# Altium integrated library Analog Devices Data Converters Analog-to-Digital Converters.IntLib: 2404 symbols (part 343 of 346)
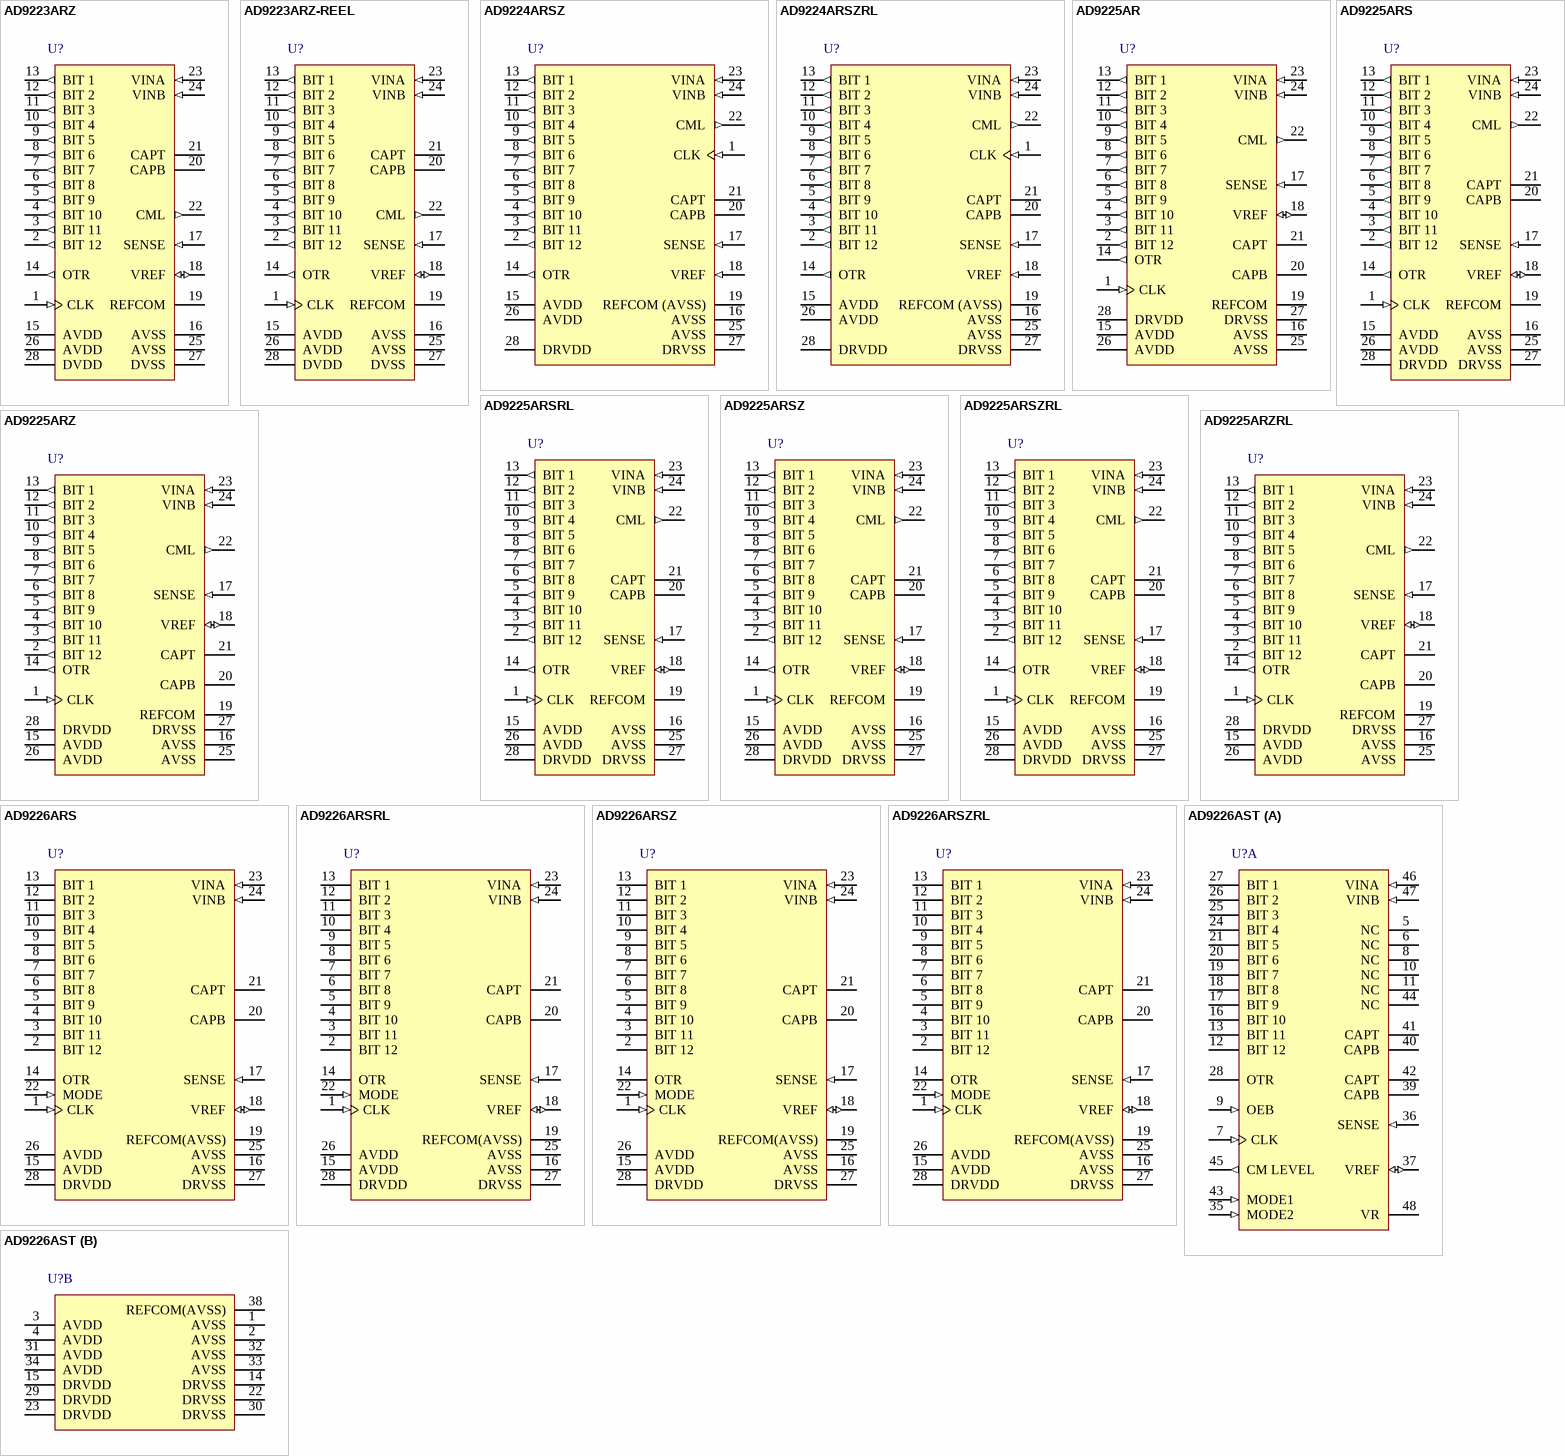
[diagram p338: symbols AD9223ARZ to AD9226AST]

## AD9225ARSZRL
designator U?
Single 12-Bit Monolithic Analog-to-Digital Converter with Parallel Interface, 25MSPS, -40 to +85 degC, RS-28, Pb-Free, Reel; Generic Part Number: AD9225; Manufacturer: Analog Devices; PartNumber: AD9225ARSZRL; Resolution (Bits): 12; Channels: 1; Throughput Rate (SPS): 25M; Interface: Par; DatasheetVersion: Rev.C; PackageVersion: 060106-A; PackageReference: RS-28; PackageDescription: 28-Lead Shrink Small Outline Package [SSOP]; Supplier 1: Digi-Key; Supplier Part Number 1: AD9225ARSZRL-ND; Supplier 2: Newark; Supplier Part Number 2: 59K7171; Supplier 3: Mouser; Supplier Part Number 3: 584-AD9225ARSZR; RoHS: Y; Packing: Reel; Mounting Technology: Surface Mount; Code_JEDEC: MO-150-AH; ComponentLink1Description: Manufacturer URL; ComponentLink1URL: http://www.analog.com/en/index.html; ComponentLink2Description: Datasheet; ComponentLink2URL: http://www.analog.com/static/imported-files/data_sheets/AD9225.pdf; ComponentLink3Description: Package Specification; ComponentLink3URL: http://www.analog.com/static/imported-files/packages/32122249223724RS_28.pdf; ComponentLink4Description: Product URL; ComponentLink4URL: http://www.analog.com/en/analog-to-digital-converters/ad-converters/ad9225/products/product.html
footprint RS-28_N (SOP, 28-Leads, Body 10.2x5.3mm, Pitch 0.65mm, IPC Medium Density)
footprint RS-28_L (SOP, 28-Leads, Body 10.2x5.3mm, Pitch 0.65mm, IPC High Density)
footprint RS-28_M (SOP, 28-Leads, Body 10.2x5.3mm, Pitch 0.65mm, IPC Low Density)
pins: 1 CLK (in) "Clock Input Pin", 2 BIT 12 (out) "Least Significant Data Bit (LSB)", 3 BIT 11 (out) "Data Output Bit", 4 BIT 10 (out) "Data Output Bit", 5 BIT 9 (out) "Data Output Bit", 6 BIT 8 (out) "Data Output Bit", 7 BIT 7 (out) "Data Output Bit", 8 BIT 6 (out) "Data Output Bit", 9 BIT 5 (out) "Data Output Bit", 10 BIT 4 (out) "Data Output Bit", 11 BIT 3 (out) "Data Output Bit", 12 BIT 2 (out) "Data Output Bit", 13 BIT 1 (out) "Most Significant Data Bit (MSB)", 14 OTR (out) "Out of Range", 15 AVDD (power) "5 V Analog Supply", 16 AVSS (power) "Analog Ground", 17 SENSE (in) "Reference Select", 18 VREF (io) "Input Span Select (Reference I/O)", 19 REFCOM (power) "Reference Common (AVSS)", 20 CAPB "Noise Reduction Pin", 21 CAPT "Noise Reduction Pin", 22 CML (out) "Common-Mode Level (Midsupply)", 23 VINA (in) "Analog Input Pin (+)", 24 VINB (in) "Analog Input Pin (-)", 25 AVSS (power) "Analog Ground", 26 AVDD (power) "5 V Analog Supply", 27 DRVSS (power) "Digital Output Driver Ground", 28 DRVDD (power) "3 V to 5 V Digital Output Driver Supply"

## AD9225ARZ
designator U?
Single 12-Bit Monolithic Analog-to-Digital Converter with Parallel Interface, 25MSPS, -40 to +85 degC, RW-28, Pb-Free, Tube; Generic Part Number: AD9225; Manufacturer: Analog Devices; PartNumber: AD9225ARZ; Resolution (Bits): 12; Channels: 1; Throughput Rate (SPS): 25M; Interface: Par; DatasheetVersion: Rev.C; PackageVersion: 060706-A; PackageReference: RW-28; PackageDescription: 28-Lead Standard Small Outline Package [SOIC_W]; Supplier 1: Digi-Key; Supplier Part Number 1: AD9225ARZ-ND; Supplier 2: Newark; Supplier Part Number 2: 59K7172; Supplier 3: Mouser; Supplier Part Number 3: 584-AD9225ARZ; RoHS: Y; Packing: Tube; Mounting Technology: Surface Mount; Code_JEDEC: MS-013-AE; ComponentLink1Description: Manufacturer URL; ComponentLink1URL: http://www.analog.com/en/index.html; ComponentLink2Description: Datasheet; ComponentLink2URL: http://www.analog.com/static/imported-files/data_sheets/AD9225.pdf; ComponentLink3Description: Package Specification; ComponentLink3URL: http://www.analog.com/static/imported-files/packages/35833120341221RW_28.pdf; ComponentLink4Description: Product URL; ComponentLink4URL: http://www.analog.com/en/analog-to-digital-converters/ad-converters/ad9225/products/product.html
footprint RW-28_N (SOIC, 28-Leads, Body 17.9x7.5mm, Pitch 1.27mm, IPC Medium Density)
footprint RW-28_L (SOIC, 28-Leads, Body 17.9x7.5mm, Pitch 1.27mm, IPC High Density)
footprint RW-28_M (SOIC, 28-Leads, Body 17.9x7.5mm, Pitch 1.27mm, IPC Low Density)
pins: 1 CLK (in) "Clock Input Pin", 2 BIT 12 (out) "Least Significant Data Bit (LSB)", 3 BIT 11 (out) "Data Output Bit", 4 BIT 10 (out) "Data Output Bit", 5 BIT 9 (out) "Data Output Bit", 6 BIT 8 (out) "Data Output Bit", 7 BIT 7 (out) "Data Output Bit", 8 BIT 6 (out) "Data Output Bit", 9 BIT 5 (out) "Data Output Bit", 10 BIT 4 (out) "Data Output Bit", 11 BIT 3 (out) "Data Output Bit", 12 BIT 2 (out) "Data Output Bit", 13 BIT 1 (out) "Most Significant Data Bit (MSB)", 14 OTR (out) "Out of Range", 15 AVDD (power) "5 V Analog Supply", 16 AVSS (power) "Analog Ground", 17 SENSE (in) "Reference Select", 18 VREF (io) "Input Span Select (Reference I/O)", 19 REFCOM (power) "Reference Common (AVSS)", 20 CAPB "Noise Reduction Pin", 21 CAPT "Noise Reduction Pin", 22 CML (out) "Common-Mode Level (Midsupply)", 23 VINA (in) "Analog Input Pin (+)", 24 VINB (in) "Analog Input Pin (-)", 25 AVSS (power) "Analog Ground", 26 AVDD (power) "5 V Analog Supply", 27 DRVSS (power) "Digital Output Driver Ground", 28 DRVDD (power) "3 V to 5 V Digital Output Driver Supply"

## AD9225ARZRL
designator U?
Single 12-Bit Monolithic Analog-to-Digital Converter with Parallel Interface, 25MSPS, -40 to +85 degC, RW-28, Pb-Free, Reel; Generic Part Number: AD9225; Manufacturer: Analog Devices; PartNumber: AD9225ARZRL; Resolution (Bits): 12; Channels: 1; Throughput Rate (SPS): 25M; Interface: Par; DatasheetVersion: Rev.C; PackageVersion: 060706-A; PackageReference: RW-28; PackageDescription: 28-Lead Standard Small Outline Package [SOIC_W]; Supplier 1: Digi-Key; Supplier Part Number 1: AD9225ARZRL-ND; Supplier 2: Mouser; Supplier Part Number 2: 584-AD9225ARZR; RoHS: Y; Packing: Reel; Mounting Technology: Surface Mount; Code_JEDEC: MS-013-AE; ComponentLink1Description: Manufacturer URL; ComponentLink1URL: http://www.analog.com/en/index.html; ComponentLink2Description: Datasheet; ComponentLink2URL: http://www.analog.com/static/imported-files/data_sheets/AD9225.pdf; ComponentLink3Description: Package Specification; ComponentLink3URL: http://www.analog.com/static/imported-files/packages/35833120341221RW_28.pdf; ComponentLink4Description: Product URL; ComponentLink4URL: http://www.analog.com/en/analog-to-digital-converters/ad-converters/ad9225/products/product.html
footprint RW-28_N (SOIC, 28-Leads, Body 17.9x7.5mm, Pitch 1.27mm, IPC Medium Density)
footprint RW-28_L (SOIC, 28-Leads, Body 17.9x7.5mm, Pitch 1.27mm, IPC High Density)
footprint RW-28_M (SOIC, 28-Leads, Body 17.9x7.5mm, Pitch 1.27mm, IPC Low Density)
pins: 1 CLK (in) "Clock Input Pin", 2 BIT 12 (out) "Least Significant Data Bit (LSB)", 3 BIT 11 (out) "Data Output Bit", 4 BIT 10 (out) "Data Output Bit", 5 BIT 9 (out) "Data Output Bit", 6 BIT 8 (out) "Data Output Bit", 7 BIT 7 (out) "Data Output Bit", 8 BIT 6 (out) "Data Output Bit", 9 BIT 5 (out) "Data Output Bit", 10 BIT 4 (out) "Data Output Bit", 11 BIT 3 (out) "Data Output Bit", 12 BIT 2 (out) "Data Output Bit", 13 BIT 1 (out) "Most Significant Data Bit (MSB)", 14 OTR (out) "Out of Range", 15 AVDD (power) "5 V Analog Supply", 16 AVSS (power) "Analog Ground", 17 SENSE (in) "Reference Select", 18 VREF (io) "Input Span Select (Reference I/O)", 19 REFCOM (power) "Reference Common (AVSS)", 20 CAPB "Noise Reduction Pin", 21 CAPT "Noise Reduction Pin", 22 CML (out) "Common-Mode Level (Midsupply)", 23 VINA (in) "Analog Input Pin (+)", 24 VINB (in) "Analog Input Pin (-)", 25 AVSS (power) "Analog Ground", 26 AVDD (power) "5 V Analog Supply", 27 DRVSS (power) "Digital Output Driver Ground", 28 DRVDD (power) "3 V to 5 V Digital Output Driver Supply"

## AD9226ARS
designator U?
Single 12-Bit Analog-to-Digital Converter with Parallel Interface, 65MSPS, -40 to +85 degC, RS-28, Tube; Generic Part Number: AD9226; Manufacturer: Analog Devices; PartNumber: AD9226ARS; Resolution (Bits): 12; Channels: 1; Throughput Rate (SPS): 65M; Interface: Par; DatasheetVersion: Rev.B; PackageVersion: 060106-A; PackageReference: RS-28; PackageDescription: 28-Lead Shrink Small Outline Package [SSOP]; Supplier 1: Digi-Key; Supplier Part Number 1: AD9226ARS-ND; RoHS: N; Packing: Tube; Mounting Technology: Surface Mount; Code_JEDEC: MO-150-AH; ComponentLink1Description: Manufacturer URL; ComponentLink1URL: http://www.analog.com/en/index.html; ComponentLink2Description: Datasheet; ComponentLink2URL: http://www.analog.com/static/imported-files/data_sheets/AD9226.pdf; ComponentLink3Description: Package Specification; ComponentLink3URL: http://www.analog.com/static/imported-files/packages/32122249223724RS_28.pdf; ComponentLink4Description: Product URL; ComponentLink4URL: http://www.analog.com/en/analog-to-digital-converters/ad-converters/ad9226/products/product.html
footprint RS-28_N (SOP, 28-Leads, Body 10.2x5.3mm, Pitch 0.65mm, IPC Medium Density)
footprint RS-28_L (SOP, 28-Leads, Body 10.2x5.3mm, Pitch 0.65mm, IPC High Density)
footprint RS-28_M (SOP, 28-Leads, Body 10.2x5.3mm, Pitch 0.65mm, IPC Low Density)
pins: 1 CLK (in) "Clock Input Pin", 2 BIT 12 (hiz) "Least Significant Data Bit (LSB)", 3 BIT 11 (hiz) "Data Output Bit", 4 BIT 10 (hiz) "Data Output Bit", 5 BIT 9 (hiz) "Data Output Bit", 6 BIT 8 (hiz) "Data Output Bit", 7 BIT 7 (hiz) "Data Output Bit", 8 BIT 6 (hiz) "Data Output Bit", 9 BIT 5 (hiz) "Data Output Bit", 10 BIT 4 (hiz) "Data Output Bit", 11 BIT 3 (hiz) "Data Output Bit", 12 BIT 2 (hiz) "Data Output Bit", 13 BIT 1 (hiz) "Most Significant Data Bit (MSB)", 14 OTR (hiz) "Out of Range", 15 AVDD (power) "5 V Analog Supply", 16 AVSS (power) "Analog Ground", 17 SENSE (in) "Reference Select", 18 VREF (io) "Input Span Select (Reference I/O)", 19 REFCOM(AVSS) (power) "Reference Common", 20 CAPB "Noise Reduction Pin", 21 CAPT "Noise Reduction Pin", 22 MODE (in) "Data Format Select /Clock Stabilizer", 23 VINA (in) "Analog Input Pin (+)", 24 VINB (in) "Analog Input Pin (-)", 25 AVSS (power) "Analog Ground", 26 AVDD (power) "5 V Analog Supply", 27 DRVSS (power) "Digital Output Driver Ground", 28 DRVDD (power) "3 V to 5 V Digital Output Driver Supply"

## AD9226ARSRL
designator U?
Single 12-Bit Analog-to-Digital Converter with Parallel Interface, 65MSPS, -40 to +85 degC, RS-28, Reel; Generic Part Number: AD9226; Manufacturer: Analog Devices; PartNumber: AD9226ARSRL; Resolution (Bits): 12; Channels: 1; Throughput Rate (SPS): 65M; Interface: Par; DatasheetVersion: Rev.B; PackageVersion: 060106-A; PackageReference: RS-28; PackageDescription: 28-Lead Shrink Small Outline Package [SSOP]; Supplier 1: Digi-Key; Supplier Part Number 1: AD9226ARSRL-ND; RoHS: N; Packing: Reel; Mounting Technology: Surface Mount; Code_JEDEC: MO-150-AH; ComponentLink1Description: Manufacturer URL; ComponentLink1URL: http://www.analog.com/en/index.html; ComponentLink2Description: Datasheet; ComponentLink2URL: http://www.analog.com/static/imported-files/data_sheets/AD9226.pdf; ComponentLink3Description: Package Specification; ComponentLink3URL: http://www.analog.com/static/imported-files/packages/32122249223724RS_28.pdf; ComponentLink4Description: Product URL; ComponentLink4URL: http://www.analog.com/en/analog-to-digital-converters/ad-converters/ad9226/products/product.html
footprint RS-28_N (SOP, 28-Leads, Body 10.2x5.3mm, Pitch 0.65mm, IPC Medium Density)
footprint RS-28_L (SOP, 28-Leads, Body 10.2x5.3mm, Pitch 0.65mm, IPC High Density)
footprint RS-28_M (SOP, 28-Leads, Body 10.2x5.3mm, Pitch 0.65mm, IPC Low Density)
pins: 1 CLK (in) "Clock Input Pin", 2 BIT 12 (hiz) "Least Significant Data Bit (LSB)", 3 BIT 11 (hiz) "Data Output Bit", 4 BIT 10 (hiz) "Data Output Bit", 5 BIT 9 (hiz) "Data Output Bit", 6 BIT 8 (hiz) "Data Output Bit", 7 BIT 7 (hiz) "Data Output Bit", 8 BIT 6 (hiz) "Data Output Bit", 9 BIT 5 (hiz) "Data Output Bit", 10 BIT 4 (hiz) "Data Output Bit", 11 BIT 3 (hiz) "Data Output Bit", 12 BIT 2 (hiz) "Data Output Bit", 13 BIT 1 (hiz) "Most Significant Data Bit (MSB)", 14 OTR (hiz) "Out of Range", 15 AVDD (power) "5 V Analog Supply", 16 AVSS (power) "Analog Ground", 17 SENSE (in) "Reference Select", 18 VREF (io) "Input Span Select (Reference I/O)", 19 REFCOM(AVSS) (power) "Reference Common", 20 CAPB "Noise Reduction Pin", 21 CAPT "Noise Reduction Pin", 22 MODE (in) "Data Format Select /Clock Stabilizer", 23 VINA (in) "Analog Input Pin (+)", 24 VINB (in) "Analog Input Pin (-)", 25 AVSS (power) "Analog Ground", 26 AVDD (power) "5 V Analog Supply", 27 DRVSS (power) "Digital Output Driver Ground", 28 DRVDD (power) "3 V to 5 V Digital Output Driver Supply"

## AD9226ARSZ
designator U?
Single 12-Bit Analog-to-Digital Converter with Parallel Interface, 65MSPS, -40 to +85 degC, RS-28, Pb-Free, Tube; Generic Part Number: AD9226; Manufacturer: Analog Devices; PartNumber: AD9226ARSZ; Resolution (Bits): 12; Channels: 1; Throughput Rate (SPS): 65M; Interface: Par; DatasheetVersion: Rev.B; PackageVersion: 060106-A; PackageReference: RS-28; PackageDescription: 28-Lead Shrink Small Outline Package [SSOP]; Supplier 1: Digi-Key; Supplier Part Number 1: AD9226ARSZ-ND; Supplier 2: Newark; Supplier Part Number 2: 59K7174; Supplier 3: Mouser; Supplier Part Number 3: 584-AD9226ARSZ; RoHS: Y; Packing: Tube; Mounting Technology: Surface Mount; Code_JEDEC: MO-150-AH; ComponentLink1Description: Manufacturer URL; ComponentLink1URL: http://www.analog.com/en/index.html; ComponentLink2Description: Datasheet; ComponentLink2URL: http://www.analog.com/static/imported-files/data_sheets/AD9226.pdf; ComponentLink3Description: Package Specification; ComponentLink3URL: http://www.analog.com/static/imported-files/packages/32122249223724RS_28.pdf; ComponentLink4Description: Product URL; ComponentLink4URL: http://www.analog.com/en/analog-to-digital-converters/ad-converters/ad9226/products/product.html
footprint RS-28_N (SOP, 28-Leads, Body 10.2x5.3mm, Pitch 0.65mm, IPC Medium Density)
footprint RS-28_L (SOP, 28-Leads, Body 10.2x5.3mm, Pitch 0.65mm, IPC High Density)
footprint RS-28_M (SOP, 28-Leads, Body 10.2x5.3mm, Pitch 0.65mm, IPC Low Density)
pins: 1 CLK (in) "Clock Input Pin", 2 BIT 12 (hiz) "Least Significant Data Bit (LSB)", 3 BIT 11 (hiz) "Data Output Bit", 4 BIT 10 (hiz) "Data Output Bit", 5 BIT 9 (hiz) "Data Output Bit", 6 BIT 8 (hiz) "Data Output Bit", 7 BIT 7 (hiz) "Data Output Bit", 8 BIT 6 (hiz) "Data Output Bit", 9 BIT 5 (hiz) "Data Output Bit", 10 BIT 4 (hiz) "Data Output Bit", 11 BIT 3 (hiz) "Data Output Bit", 12 BIT 2 (hiz) "Data Output Bit", 13 BIT 1 (hiz) "Most Significant Data Bit (MSB)", 14 OTR (hiz) "Out of Range", 15 AVDD (power) "5 V Analog Supply", 16 AVSS (power) "Analog Ground", 17 SENSE (in) "Reference Select", 18 VREF (io) "Input Span Select (Reference I/O)", 19 REFCOM(AVSS) (power) "Reference Common", 20 CAPB "Noise Reduction Pin", 21 CAPT "Noise Reduction Pin", 22 MODE (in) "Data Format Select /Clock Stabilizer", 23 VINA (in) "Analog Input Pin (+)", 24 VINB (in) "Analog Input Pin (-)", 25 AVSS (power) "Analog Ground", 26 AVDD (power) "5 V Analog Supply", 27 DRVSS (power) "Digital Output Driver Ground", 28 DRVDD (power) "3 V to 5 V Digital Output Driver Supply"

## AD9226ARSZRL
designator U?
Single 12-Bit Analog-to-Digital Converter with Parallel Interface, 65MSPS, -40 to +85 degC, RS-28, Pb-Free, Reel; Generic Part Number: AD9226; Manufacturer: Analog Devices; PartNumber: AD9226ARSZRL; Resolution (Bits): 12; Channels: 1; Throughput Rate (SPS): 65M; Interface: Par; DatasheetVersion: Rev.B; PackageVersion: 060106-A; PackageReference: RS-28; PackageDescription: 28-Lead Shrink Small Outline Package [SSOP]; Supplier 1: Digi-Key; Supplier Part Number 1: AD9226ARSZRL-ND; Supplier 2: Mouser; Supplier Part Number 2: 584-AD9226ARSZR; RoHS: Y; Packing: Reel; Mounting Technology: Surface Mount; Code_JEDEC: MO-150-AH; ComponentLink1Description: Manufacturer URL; ComponentLink1URL: http://www.analog.com/en/index.html; ComponentLink2Description: Datasheet; ComponentLink2URL: http://www.analog.com/static/imported-files/data_sheets/AD9226.pdf; ComponentLink3Description: Package Specification; ComponentLink3URL: http://www.analog.com/static/imported-files/packages/32122249223724RS_28.pdf; ComponentLink4Description: Product URL; ComponentLink4URL: http://www.analog.com/en/analog-to-digital-converters/ad-converters/ad9226/products/product.html
footprint RS-28_N (SOP, 28-Leads, Body 10.2x5.3mm, Pitch 0.65mm, IPC Medium Density)
footprint RS-28_L (SOP, 28-Leads, Body 10.2x5.3mm, Pitch 0.65mm, IPC High Density)
footprint RS-28_M (SOP, 28-Leads, Body 10.2x5.3mm, Pitch 0.65mm, IPC Low Density)
pins: 1 CLK (in) "Clock Input Pin", 2 BIT 12 (hiz) "Least Significant Data Bit (LSB)", 3 BIT 11 (hiz) "Data Output Bit", 4 BIT 10 (hiz) "Data Output Bit", 5 BIT 9 (hiz) "Data Output Bit", 6 BIT 8 (hiz) "Data Output Bit", 7 BIT 7 (hiz) "Data Output Bit", 8 BIT 6 (hiz) "Data Output Bit", 9 BIT 5 (hiz) "Data Output Bit", 10 BIT 4 (hiz) "Data Output Bit", 11 BIT 3 (hiz) "Data Output Bit", 12 BIT 2 (hiz) "Data Output Bit", 13 BIT 1 (hiz) "Most Significant Data Bit (MSB)", 14 OTR (hiz) "Out of Range", 15 AVDD (power) "5 V Analog Supply", 16 AVSS (power) "Analog Ground", 17 SENSE (in) "Reference Select", 18 VREF (io) "Input Span Select (Reference I/O)", 19 REFCOM(AVSS) (power) "Reference Common", 20 CAPB "Noise Reduction Pin", 21 CAPT "Noise Reduction Pin", 22 MODE (in) "Data Format Select /Clock Stabilizer", 23 VINA (in) "Analog Input Pin (+)", 24 VINB (in) "Analog Input Pin (-)", 25 AVSS (power) "Analog Ground", 26 AVDD (power) "5 V Analog Supply", 27 DRVSS (power) "Digital Output Driver Ground", 28 DRVDD (power) "3 V to 5 V Digital Output Driver Supply"

## AD9226AST
designator U?
Single 12-Bit Analog-to-Digital Converter with Parallel Interface, 65MSPS, -40 to +85 degC, ST-48, Tray; Generic Part Number: AD9226; Manufacturer: Analog Devices; PartNumber: AD9226AST; Resolution (Bits): 12; Channels: 1; Throughput Rate (SPS): 65M; Interface: Par; DatasheetVersion: Rev.B; PackageVersion: revA; PackageReference: ST-48; PackageDescription: 48-Pin Thin Quad Flat Pack 0.5 mm Pitch; Supplier 1: Digi-Key; Supplier Part Number 1: AD9226AST-ND; RoHS: N; Packing: Tray; Mounting Technology: Surface Mount; ComponentLink1Description: Manufacturer URL; ComponentLink1URL: http://www.analog.com/en/index.html; ComponentLink2Description: Datasheet; ComponentLink2URL: http://www.analog.com/static/imported-files/data_sheets/AD9226.pdf; ComponentLink3Description: Package Specification; ComponentLink3URL: http://www.analog.com/static/imported-files/packages/PKG_PDF/LQFP%28ST%29/ST_48.pdf; ComponentLink4Description: Product URL; ComponentLink4URL: http://www.analog.com/en/analog-to-digital-converters/ad-converters/ad9226/products/product.html
footprint ST-48_N (Thin QFP, 48-Leads, Body 7x7mm, Pitch 0.5mm, IPC Medium Density)
footprint ST-48_L (Thin QFP, 48-Leads, Body 7x7mm, Pitch 0.5mm, IPC High Density)
footprint ST-48_M (Thin QFP, 48-Leads, Body 7x7mm, Pitch 0.5mm, IPC Low Density)
part A pins: 5 NC "No Connect", 6 NC "No Connect", 7 CLK (in) "Clock Input Pin", 8 NC "No Connect", 9 OEB (in) "O\u\t\p\u\t\_\E\n\a\b\l\e\ (Active Low)", 10 NC "No Connect", 11 NC "No Connect", 12 BIT 12 (hiz) "Least Significant Data Bit (LSB)", 13 BIT 11 (hiz) "Data Output Bit", 16 BIT 10 (hiz) "Data Output Bit", 17 BIT 9 (hiz) "Data Output Bit", 18 BIT 8 (hiz) "Data Output Bit", 19 BIT 7 (hiz) "Data Output Bit", 20 BIT 6 (hiz) "Data Output Bit", 21 BIT 5 (hiz) "Data Output Bit", 24 BIT 4 (hiz) "Data Output Bit", 25 BIT 3 (hiz) "Data Output Bit", 26 BIT 2 (hiz) "Data Output Bit", 27 BIT 1 (hiz) "Most Significant Data Bit (MSB)", 28 OTR (hiz) "Out of Range", 35 MODE2 (in) "Data Format Select", 36 SENSE (in) "Reference Select", 37 VREF (io) "Reference In/Out", 39 CAPB "Noise Reduction Pin", 40 CAPB "Noise Reduction Pin", 41 CAPT "Noise Reduction Pin", 42 CAPT "Noise Reduction Pin", 43 MODE1 (in) "Clock Stabilizer", 44 NC "No Connect", 45 CM LEVEL (out) "Midsupply Reference", 46 VINA (in) "Analog Input Pin (+)", 47 VINB (in) "Analog Input Pin (-)", 48 VR "Noise Reduction Pin"
part B pins: 1 AVSS (power) "Analog Ground", 2 AVSS (power) "Analog Ground", 3 AVDD (power) "5 V Analog Supply", 4 AVDD (power) "5 V Analog Supply", 14 DRVSS (power) "Digital Output Driver Ground", 15 DRVDD (power) "3 V to 5 V Digital Output Driver Supply", 22 DRVSS (power) "Digital Output Driver Ground", 23 DRVDD (power) "3 V to 5 V Digital Output Driver Supply", 29 DRVDD (power) "3 V to 5 V Digital Output Driver Supply", 30 DRVSS (power) "Digital Output Driver Ground", 31 AVDD (power) "5 V Analog Supply", 32 AVSS (power) "Analog Ground", 33 AVSS (power) "Analog Ground", 34 AVDD (power) "5 V Analog Supply", 38 REFCOM(AVSS) (power) "Reference Common"

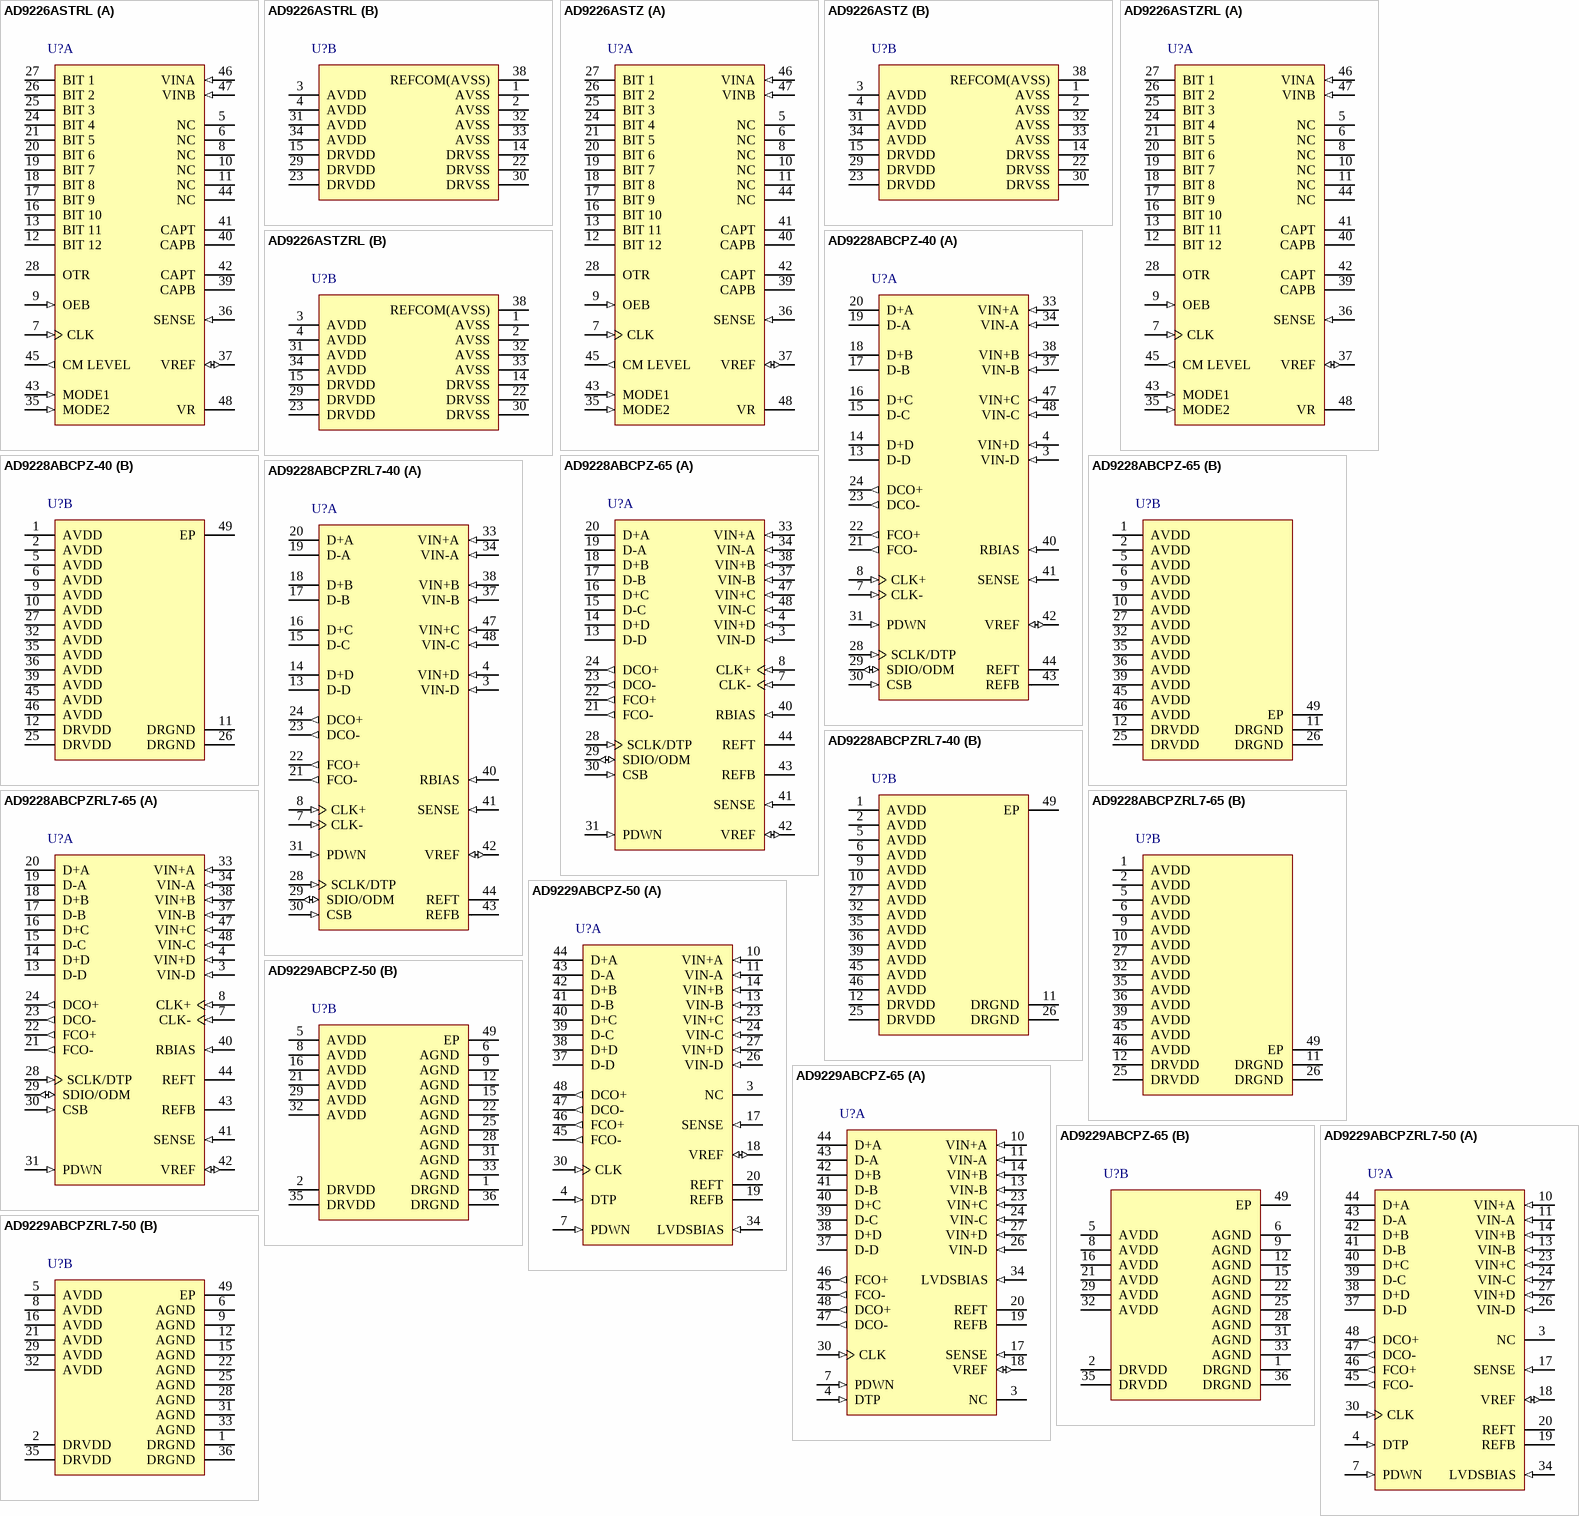
[diagram p106: symbols AD9226ASTRL to AD9229ABCPZRL7-50]

## AD9226ASTRL
designator U?
Single 12-Bit Analog-to-Digital Converter with Parallel Interface, 65MSPS, -40 to +85 degC, ST-48, Reel; Generic Part Number: AD9226; Manufacturer: Analog Devices; PartNumber: AD9226ASTRL; Resolution (Bits): 12; Channels: 1; Throughput Rate (SPS): 65M; Interface: Par; DatasheetVersion: Rev.B; PackageVersion: revA; PackageReference: ST-48; PackageDescription: 48-Pin Thin Quad Flat Pack 0.5 mm Pitch; Supplier 1: Digi-Key; Supplier Part Number 1: AD9226ASTRL-ND; RoHS: N; Packing: Reel; Mounting Technology: Surface Mount; ComponentLink1Description: Manufacturer URL; ComponentLink1URL: http://www.analog.com/en/index.html; ComponentLink2Description: Datasheet; ComponentLink2URL: http://www.analog.com/static/imported-files/data_sheets/AD9226.pdf; ComponentLink3Description: Package Specification; ComponentLink3URL: http://www.analog.com/static/imported-files/packages/PKG_PDF/LQFP%28ST%29/ST_48.pdf; ComponentLink4Description: Product URL; ComponentLink4URL: http://www.analog.com/en/analog-to-digital-converters/ad-converters/ad9226/products/product.html
footprint ST-48_N (Thin QFP, 48-Leads, Body 7x7mm, Pitch 0.5mm, IPC Medium Density)
footprint ST-48_L (Thin QFP, 48-Leads, Body 7x7mm, Pitch 0.5mm, IPC High Density)
footprint ST-48_M (Thin QFP, 48-Leads, Body 7x7mm, Pitch 0.5mm, IPC Low Density)
part A pins: 5 NC "No Connect", 6 NC "No Connect", 7 CLK (in) "Clock Input Pin", 8 NC "No Connect", 9 OEB (in) "O\u\t\p\u\t\_\E\n\a\b\l\e\ (Active Low)", 10 NC "No Connect", 11 NC "No Connect", 12 BIT 12 (hiz) "Least Significant Data Bit (LSB)", 13 BIT 11 (hiz) "Data Output Bit", 16 BIT 10 (hiz) "Data Output Bit", 17 BIT 9 (hiz) "Data Output Bit", 18 BIT 8 (hiz) "Data Output Bit", 19 BIT 7 (hiz) "Data Output Bit", 20 BIT 6 (hiz) "Data Output Bit", 21 BIT 5 (hiz) "Data Output Bit", 24 BIT 4 (hiz) "Data Output Bit", 25 BIT 3 (hiz) "Data Output Bit", 26 BIT 2 (hiz) "Data Output Bit", 27 BIT 1 (hiz) "Most Significant Data Bit (MSB)", 28 OTR (hiz) "Out of Range", 35 MODE2 (in) "Data Format Select", 36 SENSE (in) "Reference Select", 37 VREF (io) "Reference In/Out", 39 CAPB "Noise Reduction Pin", 40 CAPB "Noise Reduction Pin", 41 CAPT "Noise Reduction Pin", 42 CAPT "Noise Reduction Pin", 43 MODE1 (in) "Clock Stabilizer", 44 NC "No Connect", 45 CM LEVEL (out) "Midsupply Reference", 46 VINA (in) "Analog Input Pin (+)", 47 VINB (in) "Analog Input Pin (-)", 48 VR "Noise Reduction Pin"
part B pins: 1 AVSS (power) "Analog Ground", 2 AVSS (power) "Analog Ground", 3 AVDD (power) "5 V Analog Supply", 4 AVDD (power) "5 V Analog Supply", 14 DRVSS (power) "Digital Output Driver Ground", 15 DRVDD (power) "3 V to 5 V Digital Output Driver Supply", 22 DRVSS (power) "Digital Output Driver Ground", 23 DRVDD (power) "3 V to 5 V Digital Output Driver Supply", 29 DRVDD (power) "3 V to 5 V Digital Output Driver Supply", 30 DRVSS (power) "Digital Output Driver Ground", 31 AVDD (power) "5 V Analog Supply", 32 AVSS (power) "Analog Ground", 33 AVSS (power) "Analog Ground", 34 AVDD (power) "5 V Analog Supply", 38 REFCOM(AVSS) (power) "Reference Common"

## AD9226ASTZ
designator U?
Single 12-Bit Analog-to-Digital Converter with Parallel Interface, 65MSPS, -40 to +85 degC, ST-48, Pb-Free, Tray; Generic Part Number: AD9226; Manufacturer: Analog Devices; PartNumber: AD9226ASTZ; Resolution (Bits): 12; Channels: 1; Throughput Rate (SPS): 65M; Interface: Par; DatasheetVersion: Rev.B; PackageVersion: revA; PackageReference: ST-48; PackageDescription: 48-Pin Thin Quad Flat Pack 0.5 mm Pitch; Supplier 1: Digi-Key; Supplier Part Number 1: AD9226ASTZ-ND; Supplier 2: Newark; Supplier Part Number 2: 59K7176; Supplier 3: Mouser; Supplier Part Number 3: 584-AD9226ASTZ; RoHS: Y; Packing: Tray; Mounting Technology: Surface Mount; ComponentLink1Description: Manufacturer URL; ComponentLink1URL: http://www.analog.com/en/index.html; ComponentLink2Description: Datasheet; ComponentLink2URL: http://www.analog.com/static/imported-files/data_sheets/AD9226.pdf; ComponentLink3Description: Package Specification; ComponentLink3URL: http://www.analog.com/static/imported-files/packages/PKG_PDF/LQFP%28ST%29/ST_48.pdf; ComponentLink4Description: Product URL; ComponentLink4URL: http://www.analog.com/en/analog-to-digital-converters/ad-converters/ad9226/products/product.html
footprint ST-48_N (Thin QFP, 48-Leads, Body 7x7mm, Pitch 0.5mm, IPC Medium Density)
footprint ST-48_L (Thin QFP, 48-Leads, Body 7x7mm, Pitch 0.5mm, IPC High Density)
footprint ST-48_M (Thin QFP, 48-Leads, Body 7x7mm, Pitch 0.5mm, IPC Low Density)
part A pins: 5 NC "No Connect", 6 NC "No Connect", 7 CLK (in) "Clock Input Pin", 8 NC "No Connect", 9 OEB (in) "O\u\t\p\u\t\_\E\n\a\b\l\e\ (Active Low)", 10 NC "No Connect", 11 NC "No Connect", 12 BIT 12 (hiz) "Least Significant Data Bit (LSB)", 13 BIT 11 (hiz) "Data Output Bit", 16 BIT 10 (hiz) "Data Output Bit", 17 BIT 9 (hiz) "Data Output Bit", 18 BIT 8 (hiz) "Data Output Bit", 19 BIT 7 (hiz) "Data Output Bit", 20 BIT 6 (hiz) "Data Output Bit", 21 BIT 5 (hiz) "Data Output Bit", 24 BIT 4 (hiz) "Data Output Bit", 25 BIT 3 (hiz) "Data Output Bit", 26 BIT 2 (hiz) "Data Output Bit", 27 BIT 1 (hiz) "Most Significant Data Bit (MSB)", 28 OTR (hiz) "Out of Range", 35 MODE2 (in) "Data Format Select", 36 SENSE (in) "Reference Select", 37 VREF (io) "Reference In/Out", 39 CAPB "Noise Reduction Pin", 40 CAPB "Noise Reduction Pin", 41 CAPT "Noise Reduction Pin", 42 CAPT "Noise Reduction Pin", 43 MODE1 (in) "Clock Stabilizer", 44 NC "No Connect", 45 CM LEVEL (out) "Midsupply Reference", 46 VINA (in) "Analog Input Pin (+)", 47 VINB (in) "Analog Input Pin (-)", 48 VR "Noise Reduction Pin"
part B pins: 1 AVSS (power) "Analog Ground", 2 AVSS (power) "Analog Ground", 3 AVDD (power) "5 V Analog Supply", 4 AVDD (power) "5 V Analog Supply", 14 DRVSS (power) "Digital Output Driver Ground", 15 DRVDD (power) "3 V to 5 V Digital Output Driver Supply", 22 DRVSS (power) "Digital Output Driver Ground", 23 DRVDD (power) "3 V to 5 V Digital Output Driver Supply", 29 DRVDD (power) "3 V to 5 V Digital Output Driver Supply", 30 DRVSS (power) "Digital Output Driver Ground", 31 AVDD (power) "5 V Analog Supply", 32 AVSS (power) "Analog Ground", 33 AVSS (power) "Analog Ground", 34 AVDD (power) "5 V Analog Supply", 38 REFCOM(AVSS) (power) "Reference Common"

## AD9226ASTZRL
designator U?
Single 12-Bit Analog-to-Digital Converter with Parallel Interface, 65MSPS, -40 to +85 degC, ST-48, Pb-Free, Reel; Generic Part Number: AD9226; Manufacturer: Analog Devices; PartNumber: AD9226ASTZRL; Resolution (Bits): 12; Channels: 1; Throughput Rate (SPS): 65M; Interface: Par; DatasheetVersion: Rev.B; PackageVersion: revA; PackageReference: ST-48; PackageDescription: 48-Pin Thin Quad Flat Pack 0.5 mm Pitch; Supplier 1: Digi-Key; Supplier Part Number 1: AD9226ASTZRL-ND; Supplier 2: Mouser; Supplier Part Number 2: 584-AD9226ASTZR; RoHS: Y; Packing: Reel; Mounting Technology: Surface Mount; ComponentLink1Description: Manufacturer URL; ComponentLink1URL: http://www.analog.com/en/index.html; ComponentLink2Description: Datasheet; ComponentLink2URL: http://www.analog.com/static/imported-files/data_sheets/AD9226.pdf; ComponentLink3Description: Package Specification; ComponentLink3URL: http://www.analog.com/static/imported-files/packages/PKG_PDF/LQFP%28ST%29/ST_48.pdf; ComponentLink4Description: Product URL; ComponentLink4URL: http://www.analog.com/en/analog-to-digital-converters/ad-converters/ad9226/products/product.html
footprint ST-48_N (Thin QFP, 48-Leads, Body 7x7mm, Pitch 0.5mm, IPC Medium Density)
footprint ST-48_L (Thin QFP, 48-Leads, Body 7x7mm, Pitch 0.5mm, IPC High Density)
footprint ST-48_M (Thin QFP, 48-Leads, Body 7x7mm, Pitch 0.5mm, IPC Low Density)
part A pins: 5 NC "No Connect", 6 NC "No Connect", 7 CLK (in) "Clock Input Pin", 8 NC "No Connect", 9 OEB (in) "O\u\t\p\u\t\_\E\n\a\b\l\e\ (Active Low)", 10 NC "No Connect", 11 NC "No Connect", 12 BIT 12 (hiz) "Least Significant Data Bit (LSB)", 13 BIT 11 (hiz) "Data Output Bit", 16 BIT 10 (hiz) "Data Output Bit", 17 BIT 9 (hiz) "Data Output Bit", 18 BIT 8 (hiz) "Data Output Bit", 19 BIT 7 (hiz) "Data Output Bit", 20 BIT 6 (hiz) "Data Output Bit", 21 BIT 5 (hiz) "Data Output Bit", 24 BIT 4 (hiz) "Data Output Bit", 25 BIT 3 (hiz) "Data Output Bit", 26 BIT 2 (hiz) "Data Output Bit", 27 BIT 1 (hiz) "Most Significant Data Bit (MSB)", 28 OTR (hiz) "Out of Range", 35 MODE2 (in) "Data Format Select", 36 SENSE (in) "Reference Select", 37 VREF (io) "Reference In/Out", 39 CAPB "Noise Reduction Pin", 40 CAPB "Noise Reduction Pin", 41 CAPT "Noise Reduction Pin", 42 CAPT "Noise Reduction Pin", 43 MODE1 (in) "Clock Stabilizer", 44 NC "No Connect", 45 CM LEVEL (out) "Midsupply Reference", 46 VINA (in) "Analog Input Pin (+)", 47 VINB (in) "Analog Input Pin (-)", 48 VR "Noise Reduction Pin"
part B pins: 1 AVSS (power) "Analog Ground", 2 AVSS (power) "Analog Ground", 3 AVDD (power) "5 V Analog Supply", 4 AVDD (power) "5 V Analog Supply", 14 DRVSS (power) "Digital Output Driver Ground", 15 DRVDD (power) "3 V to 5 V Digital Output Driver Supply", 22 DRVSS (power) "Digital Output Driver Ground", 23 DRVDD (power) "3 V to 5 V Digital Output Driver Supply", 29 DRVDD (power) "3 V to 5 V Digital Output Driver Supply", 30 DRVSS (power) "Digital Output Driver Ground", 31 AVDD (power) "5 V Analog Supply", 32 AVSS (power) "Analog Ground", 33 AVSS (power) "Analog Ground", 34 AVDD (power) "5 V Analog Supply", 38 REFCOM(AVSS) (power) "Reference Common"

## AD9228ABCPZ-40
designator U?
Quad 12-Bit Analog-to-Digital Converter with LVDS, Serial Interface, 40MSPS, -40 to +85 degC, CP-48-8, Pb-Free, Tray; Generic Part Number: AD9228-40; Manufacturer: Analog Devices; PartNumber: AD9228ABCPZ-40; Resolution (Bits): 12; Channels: 4; Throughput Rate (SPS): 40M; DatasheetVersion: Rev.E; PackageVersion: 02-23-2010-C; PackageReference: CP-48-8; PackageDescription: 48-Lead Lead Frame Chip Scale Package [LFCSP_VQ] 7 x 7 mm Body, Very Thin Quad; Supplier 1: Digi-Key; Supplier Part Number 1: AD9228ABCPZ-40-ND; Supplier 2: Mouser; Supplier Part Number 2: 584-AD9228ABCPZ-40; Interface: LVDS, Ser; RoHS: Y; Packing: Tray; Mounting Technology: Surface Mount; Code_JEDEC: MO-220-VKKD-2; ComponentLink1Description: Manufacturer URL; ComponentLink1URL: http://www.analog.com/en/index.html; ComponentLink2Description: Datasheet; ComponentLink2URL: http://www.analog.com/static/imported-files/data_sheets/AD9228.pdf; ComponentLink3Description: Package Specification; ComponentLink3URL: http://www.analog.com/static/imported-files/packages/PKG_PDF/LFCSP(CP)/CP_48_8.pdf; ComponentLink4Description: Product URL; ComponentLink4URL: http://www.analog.com/en/analog-to-digital-converters/ad-converters/ad9228/products/product.html
footprint CP-48-8_N (QFN, 48-Leads, Body 7x7mm, Pitch 0.5mm, Thermal Pad 5.5x5.5mm, IPC Medium Density)
footprint CP-48-8_L (QFN, 48-Leads, Body 7x7mm, Pitch 0.5mm, Thermal Pad 5.5x5.5mm, IPC High Density)
footprint CP-48-8_M (QFN, 48-Leads, Body 7x7mm, Pitch 0.5mm, Thermal Pad 5.5x5.5mm, IPC Low Density)
part A pins: 3 VIN-D (in) "ADC D Analog Input Complement", 4 VIN+D (in) "ADC D Analog Input True", 7 CLK- (in) "Input Clock Complement", 8 CLK+ (in) "Input Clock True", 13 D-D (hiz) "ADC D Digital Output Complement", 14 D+D (hiz) "ADC D Digital Output True", 15 D-C (hiz) "ADC C Digital Output Complement", 16 D+C (hiz) "ADC C Digital Output True", 17 D-B (hiz) "ADC B Digital Output Complement", 18 D+B (hiz) "ADC B Digital Output True", 19 D-A (hiz) "ADC A Digital Output Complement", 20 D+A (hiz) "ADC A Digital Output True", 21 FCO- (out) "Frame Clock Output Complement", 22 FCO+ (out) "Frame Clock Output True", 23 DCO- (out) "Data Clock Output Complement", 24 DCO+ (out) "Data Clock Output True", 28 SCLK/DTP (in) "Serial Clock/Digital Test Pattern", 29 SDIO/ODM (io) "Serial Data IO/Output Driver Mode", 30 CSB (in) "Chip Select Bar", 31 PDWN (in) "Power-Down", 33 VIN+A (in) "ADC A Analog Input True", 34 VIN-A (in) "ADC A Analog Input Complement", 37 VIN-B (in) "ADC B Analog Input Complement", 38 VIN+B (in) "ADC B Analog Input True", 40 RBIAS (in) "External resistor sets the internal ADC core bias current", 41 SENSE (in) "Reference Mode Selection", 42 VREF (io) "Voltage Reference Input/Output", 43 REFB "Differential Reference (Negative)", 44 REFT "Differential Reference (Positive)", 47 VIN+C (in) "ADC C Analog Input True", 48 VIN-C (in) "ADC C Analog Input Complement"
part B pins: 1 AVDD (power) "1.8 V Analog Supply", 2 AVDD (power) "1.8 V Analog Supply", 5 AVDD (power) "1.8 V Analog Supply", 6 AVDD (power) "1.8 V Analog Supply", 9 AVDD (power) "1.8 V Analog Supply", 10 AVDD (power) "1.8 V Analog Supply", 11 DRGND (power) "Digital Output Driver Ground", 12 DRVDD (power) "1.8 V Digital Output Driver Supply", 25 DRVDD (power) "1.8 V Digital Output Driver Supply", 26 DRGND (power) "Digital Output Driver Ground", 27 AVDD (power) "1.8 V Analog Supply", 32 AVDD (power) "1.8 V Analog Supply", 35 AVDD (power) "1.8 V Analog Supply", 36 AVDD (power) "1.8 V Analog Supply", 39 AVDD (power) "1.8 V Analog Supply", 45 AVDD (power) "1.8 V Analog Supply", 46 AVDD (power) "1.8 V Analog Supply", 49 EP (power) "Analog Ground (Exposed Paddle)"

## AD9228ABCPZ-65
designator U?
Quad 12-Bit Analog-to-Digital Converter with LVDS, Serial Interface, 65MSPS, -40 to +85 degC, CP-48-8, Pb-Free, Tray; Generic Part Number: AD9228-65; Manufacturer: Analog Devices; PartNumber: AD9228ABCPZ-65; Resolution (Bits): 12; Channels: 4; Throughput Rate (SPS): 65M; DatasheetVersion: Rev.E; PackageVersion: 02-23-2010-C; PackageReference: CP-48-8; PackageDescription: 48-Lead Lead Frame Chip Scale Package [LFCSP_VQ] 7 x 7 mm Body, Very Thin Quad; Supplier 1: Digi-Key; Supplier Part Number 1: AD9228ABCPZ-65-ND; Supplier 2: Mouser; Supplier Part Number 2: 584-AD9228ABCPZ-65; Interface: LVDS, Ser; RoHS: Y; Packing: Tray; Mounting Technology: Surface Mount; Code_JEDEC: MO-220-VKKD-2; ComponentLink1Description: Manufacturer URL; ComponentLink1URL: http://www.analog.com/en/index.html; ComponentLink2Description: Datasheet; ComponentLink2URL: http://www.analog.com/static/imported-files/data_sheets/AD9228.pdf; ComponentLink3Description: Package Specification; ComponentLink3URL: http://www.analog.com/static/imported-files/packages/PKG_PDF/LFCSP(CP)/CP_48_8.pdf; ComponentLink4Description: Product URL; ComponentLink4URL: http://www.analog.com/en/analog-to-digital-converters/ad-converters/ad9228/products/product.html
footprint CP-48-8_N (QFN, 48-Leads, Body 7x7mm, Pitch 0.5mm, Thermal Pad 5.5x5.5mm, IPC Medium Density)
footprint CP-48-8_L (QFN, 48-Leads, Body 7x7mm, Pitch 0.5mm, Thermal Pad 5.5x5.5mm, IPC High Density)
footprint CP-48-8_M (QFN, 48-Leads, Body 7x7mm, Pitch 0.5mm, Thermal Pad 5.5x5.5mm, IPC Low Density)
part A pins: 3 VIN-D (in) "ADC D Analog Input Complement", 4 VIN+D (in) "ADC D Analog Input True", 7 CLK- (in) "Input Clock Complement", 8 CLK+ (in) "Input Clock True", 13 D-D (hiz) "ADC D Digital Output Complement", 14 D+D (hiz) "ADC D Digital Output True", 15 D-C (hiz) "ADC C Digital Output Complement", 16 D+C (hiz) "ADC C Digital Output True", 17 D-B (hiz) "ADC B Digital Output Complement", 18 D+B (hiz) "ADC B Digital Output True", 19 D-A (hiz) "ADC A Digital Output Complement", 20 D+A (hiz) "ADC A Digital Output True", 21 FCO- (out) "Frame Clock Output Complement", 22 FCO+ (out) "Frame Clock Output True", 23 DCO- (out) "Data Clock Output Complement", 24 DCO+ (out) "Data Clock Output True", 28 SCLK/DTP (in) "Serial Clock/Digital Test Pattern", 29 SDIO/ODM (io) "Serial Data IO/Output Driver Mode", 30 CSB (in) "Chip Select Bar", 31 PDWN (in) "Power-Down", 33 VIN+A (in) "ADC A Analog Input True", 34 VIN-A (in) "ADC A Analog Input Complement", 37 VIN-B (in) "ADC B Analog Input Complement", 38 VIN+B (in) "ADC B Analog Input True", 40 RBIAS (in) "External resistor sets the internal ADC core bias current", 41 SENSE (in) "Reference Mode Selection", 42 VREF (io) "Voltage Reference Input/Output", 43 REFB "Differential Reference (Negative)", 44 REFT "Differential Reference (Positive)", 47 VIN+C (in) "ADC C Analog Input True", 48 VIN-C (in) "ADC C Analog Input Complement"
part B pins: 1 AVDD (power) "1.8 V Analog Supply", 2 AVDD (power) "1.8 V Analog Supply", 5 AVDD (power) "1.8 V Analog Supply", 6 AVDD (power) "1.8 V Analog Supply", 9 AVDD (power) "1.8 V Analog Supply", 10 AVDD (power) "1.8 V Analog Supply", 11 DRGND (power) "Digital Output Driver Ground", 12 DRVDD (power) "1.8 V Digital Output Driver Supply", 25 DRVDD (power) "1.8 V Digital Output Driver Supply", 26 DRGND (power) "Digital Output Driver Ground", 27 AVDD (power) "1.8 V Analog Supply", 32 AVDD (power) "1.8 V Analog Supply", 35 AVDD (power) "1.8 V Analog Supply", 36 AVDD (power) "1.8 V Analog Supply", 39 AVDD (power) "1.8 V Analog Supply", 45 AVDD (power) "1.8 V Analog Supply", 46 AVDD (power) "1.8 V Analog Supply", 49 EP (power) "Analog Ground (Exposed Paddle)"

## AD9228ABCPZRL7-40
designator U?
Quad 12-Bit Analog-to-Digital Converter with LVDS, Serial Interface, 40MSPS, -40 to +85 degC, CP-48-8, Pb-Free,Reel; Generic Part Number: AD9228-40; Manufacturer: Analog Devices; PartNumber: AD9228ABCPZRL7-40; Resolution (Bits): 12; Channels: 4; Throughput Rate (SPS): 40M; DatasheetVersion: Rev.E; PackageVersion: 02-23-2010-C; PackageReference: CP-48-8; PackageDescription: 48-Lead Lead Frame Chip Scale Package [LFCSP_VQ] 7 x 7 mm Body, Very Thin Quad; Supplier 1: Digi-Key; Supplier Part Number 1: AD9228ABCPZRL7-40-ND; Supplier 2: Mouser; Supplier Part Number 2: 584-AD9228ABCPZR7-40; Interface: LVDS, Ser; RoHS: Y; Packing: Reel; Mounting Technology: Surface Mount; Code_JEDEC: MO-220-VKKD-2; ComponentLink1Description: Manufacturer URL; ComponentLink1URL: http://www.analog.com/en/index.html; ComponentLink2Description: Datasheet; ComponentLink2URL: http://www.analog.com/static/imported-files/data_sheets/AD9228.pdf; ComponentLink3Description: Package Specification; ComponentLink3URL: http://www.analog.com/static/imported-files/packages/PKG_PDF/LFCSP(CP)/CP_48_8.pdf; ComponentLink4Description: Product URL; ComponentLink4URL: http://www.analog.com/en/analog-to-digital-converters/ad-converters/ad9228/products/product.html
footprint CP-48-8_N (QFN, 48-Leads, Body 7x7mm, Pitch 0.5mm, Thermal Pad 5.5x5.5mm, IPC Medium Density)
footprint CP-48-8_L (QFN, 48-Leads, Body 7x7mm, Pitch 0.5mm, Thermal Pad 5.5x5.5mm, IPC High Density)
footprint CP-48-8_M (QFN, 48-Leads, Body 7x7mm, Pitch 0.5mm, Thermal Pad 5.5x5.5mm, IPC Low Density)
part A pins: 3 VIN-D (in) "ADC D Analog Input Complement", 4 VIN+D (in) "ADC D Analog Input True", 7 CLK- (in) "Input Clock Complement", 8 CLK+ (in) "Input Clock True", 13 D-D (hiz) "ADC D Digital Output Complement", 14 D+D (hiz) "ADC D Digital Output True", 15 D-C (hiz) "ADC C Digital Output Complement", 16 D+C (hiz) "ADC C Digital Output True", 17 D-B (hiz) "ADC B Digital Output Complement", 18 D+B (hiz) "ADC B Digital Output True", 19 D-A (hiz) "ADC A Digital Output Complement", 20 D+A (hiz) "ADC A Digital Output True", 21 FCO- (out) "Frame Clock Output Complement", 22 FCO+ (out) "Frame Clock Output True", 23 DCO- (out) "Data Clock Output Complement", 24 DCO+ (out) "Data Clock Output True", 28 SCLK/DTP (in) "Serial Clock/Digital Test Pattern", 29 SDIO/ODM (io) "Serial Data IO/Output Driver Mode", 30 CSB (in) "Chip Select Bar", 31 PDWN (in) "Power-Down", 33 VIN+A (in) "ADC A Analog Input True", 34 VIN-A (in) "ADC A Analog Input Complement", 37 VIN-B (in) "ADC B Analog Input Complement", 38 VIN+B (in) "ADC B Analog Input True", 40 RBIAS (in) "External resistor sets the internal ADC core bias current", 41 SENSE (in) "Reference Mode Selection", 42 VREF (io) "Voltage Reference Input/Output", 43 REFB "Differential Reference (Negative)", 44 REFT "Differential Reference (Positive)", 47 VIN+C (in) "ADC C Analog Input True", 48 VIN-C (in) "ADC C Analog Input Complement"
part B pins: 1 AVDD (power) "1.8 V Analog Supply", 2 AVDD (power) "1.8 V Analog Supply", 5 AVDD (power) "1.8 V Analog Supply", 6 AVDD (power) "1.8 V Analog Supply", 9 AVDD (power) "1.8 V Analog Supply", 10 AVDD (power) "1.8 V Analog Supply", 11 DRGND (power) "Digital Output Driver Ground", 12 DRVDD (power) "1.8 V Digital Output Driver Supply", 25 DRVDD (power) "1.8 V Digital Output Driver Supply", 26 DRGND (power) "Digital Output Driver Ground", 27 AVDD (power) "1.8 V Analog Supply", 32 AVDD (power) "1.8 V Analog Supply", 35 AVDD (power) "1.8 V Analog Supply", 36 AVDD (power) "1.8 V Analog Supply", 39 AVDD (power) "1.8 V Analog Supply", 45 AVDD (power) "1.8 V Analog Supply", 46 AVDD (power) "1.8 V Analog Supply", 49 EP (power) "Analog Ground (Exposed Paddle)"

## AD9228ABCPZRL7-65
designator U?
Quad 12-Bit Analog-to-Digital Converter with LVDS, Serial Interface, 65MSPS, -40 to +85 degC, CP-48-8, Pb-Free, Reel; Generic Part Number: AD9228-65; Manufacturer: Analog Devices; PartNumber: AD9228ABCPZRL7-65; Resolution (Bits): 12; Channels: 4; Throughput Rate (SPS): 65M; DatasheetVersion: Rev.E; PackageVersion: 02-23-2010-C; PackageReference: CP-48-8; PackageDescription: 48-Lead Lead Frame Chip Scale Package [LFCSP_VQ] 7 x 7 mm Body, Very Thin Quad; Supplier 1: Digi-Key; Supplier Part Number 1: AD9228ABCPZRL7-65-ND; Supplier 2: Mouser; Supplier Part Number 2: 584-AD9228ABCPZR7-65; Interface: LVDS, Ser; RoHS: Y; Packing: Reel; Mounting Technology: Surface Mount; Code_JEDEC: MO-220-VKKD-2; ComponentLink1Description: Manufacturer URL; ComponentLink1URL: http://www.analog.com/en/index.html; ComponentLink2Description: Datasheet; ComponentLink2URL: http://www.analog.com/static/imported-files/data_sheets/AD9228.pdf; ComponentLink3Description: Package Specification; ComponentLink3URL: http://www.analog.com/static/imported-files/packages/PKG_PDF/LFCSP(CP)/CP_48_8.pdf; ComponentLink4Description: Product URL; ComponentLink4URL: http://www.analog.com/en/analog-to-digital-converters/ad-converters/ad9228/products/product.html
footprint CP-48-8_N (QFN, 48-Leads, Body 7x7mm, Pitch 0.5mm, Thermal Pad 5.5x5.5mm, IPC Medium Density)
footprint CP-48-8_L (QFN, 48-Leads, Body 7x7mm, Pitch 0.5mm, Thermal Pad 5.5x5.5mm, IPC High Density)
footprint CP-48-8_M (QFN, 48-Leads, Body 7x7mm, Pitch 0.5mm, Thermal Pad 5.5x5.5mm, IPC Low Density)
part A pins: 3 VIN-D (in) "ADC D Analog Input Complement", 4 VIN+D (in) "ADC D Analog Input True", 7 CLK- (in) "Input Clock Complement", 8 CLK+ (in) "Input Clock True", 13 D-D (hiz) "ADC D Digital Output Complement", 14 D+D (hiz) "ADC D Digital Output True", 15 D-C (hiz) "ADC C Digital Output Complement", 16 D+C (hiz) "ADC C Digital Output True", 17 D-B (hiz) "ADC B Digital Output Complement", 18 D+B (hiz) "ADC B Digital Output True", 19 D-A (hiz) "ADC A Digital Output Complement", 20 D+A (hiz) "ADC A Digital Output True", 21 FCO- (out) "Frame Clock Output Complement", 22 FCO+ (out) "Frame Clock Output True", 23 DCO- (out) "Data Clock Output Complement", 24 DCO+ (out) "Data Clock Output True", 28 SCLK/DTP (in) "Serial Clock/Digital Test Pattern", 29 SDIO/ODM (io) "Serial Data IO/Output Driver Mode", 30 CSB (in) "Chip Select Bar", 31 PDWN (in) "Power-Down", 33 VIN+A (in) "ADC A Analog Input True", 34 VIN-A (in) "ADC A Analog Input Complement", 37 VIN-B (in) "ADC B Analog Input Complement", 38 VIN+B (in) "ADC B Analog Input True", 40 RBIAS (in) "External resistor sets the internal ADC core bias current", 41 SENSE (in) "Reference Mode Selection", 42 VREF (io) "Voltage Reference Input/Output", 43 REFB "Differential Reference (Negative)", 44 REFT "Differential Reference (Positive)", 47 VIN+C (in) "ADC C Analog Input True", 48 VIN-C (in) "ADC C Analog Input Complement"
part B pins: 1 AVDD (power) "1.8 V Analog Supply", 2 AVDD (power) "1.8 V Analog Supply", 5 AVDD (power) "1.8 V Analog Supply", 6 AVDD (power) "1.8 V Analog Supply", 9 AVDD (power) "1.8 V Analog Supply", 10 AVDD (power) "1.8 V Analog Supply", 11 DRGND (power) "Digital Output Driver Ground", 12 DRVDD (power) "1.8 V Digital Output Driver Supply", 25 DRVDD (power) "1.8 V Digital Output Driver Supply", 26 DRGND (power) "Digital Output Driver Ground", 27 AVDD (power) "1.8 V Analog Supply", 32 AVDD (power) "1.8 V Analog Supply", 35 AVDD (power) "1.8 V Analog Supply", 36 AVDD (power) "1.8 V Analog Supply", 39 AVDD (power) "1.8 V Analog Supply", 45 AVDD (power) "1.8 V Analog Supply", 46 AVDD (power) "1.8 V Analog Supply", 49 EP (power) "Analog Ground (Exposed Paddle)"

## AD9229ABCPZ-50
designator U?
Quad 12-Bit Analog-to-Digital Converter with Serial Interface, 50MSPS, -40 to +85 degC, CP-48-8, Pb-Free, Tray; Generic Part Number: AD9229-50; Manufacturer: Analog Devices; PartNumber: AD9229ABCPZ-50; Resolution (Bits): 12; Channels: 4; Throughput Rate (SPS): 50M; Interface: Ser; DatasheetVersion: Rev.B; PackageVersion: 02-23-2010-C; PackageReference: CP-48-8; PackageDescription: 48-Lead Lead Frame Chip Scale Package [LFCSP_VQ] 7 x 7 mm Body, Very Thin Quad; Supplier 1: Digi-Key; Supplier Part Number 1: AD9229ABCPZ-50-ND; Supplier 2: Farnell; Supplier Part Number 2: 1078254; Supplier 3: Newark; Supplier Part Number 3: 74R6016; Supplier 4: Mouser; Supplier Part Number 4: 584-AD9229ABCPZ-50; RoHS: Y; Packing: Tray; Mounting Technology: Surface Mount; Code_JEDEC: MO-220-VKKD-2; ComponentLink1Description: Manufacturer URL; ComponentLink1URL: http://www.analog.com/en/index.html; ComponentLink2Description: Datasheet; ComponentLink2URL: http://www.analog.com/static/imported-files/data_sheets/AD9229.pdf; ComponentLink3Description: Package Specification; ComponentLink3URL: http://www.analog.com/static/imported-files/packages/PKG_PDF/LFCSP(CP)/CP_48_8.pdf; ComponentLink4Description: Product URL; ComponentLink4URL: http://www.analog.com/en/analog-to-digital-converters/ad-converters/ad9229/products/product.html
footprint CP-48-8_N (QFN, 48-Leads, Body 7x7mm, Pitch 0.5mm, Thermal Pad 5.5x5.5mm, IPC Medium Density)
footprint CP-48-8_L (QFN, 48-Leads, Body 7x7mm, Pitch 0.5mm, Thermal Pad 5.5x5.5mm, IPC High Density)
footprint CP-48-8_M (QFN, 48-Leads, Body 7x7mm, Pitch 0.5mm, Thermal Pad 5.5x5.5mm, IPC Low Density)
part A pins: 3 NC "No Connect", 4 DTP (in) "Digital Test Pattern Enable", 7 PDWN (in) "Power-Down Selection (AVDD =Power Down)", 10 VIN+A (in) "ADC A Analog Input--True", 11 VIN-A (in) "ADC A Analog Input--Complement", 13 VIN-B (in) "ADC B Analog Input--Complement", 14 VIN+B (in) "ADC B Analog Input--True", 17 SENSE (in) "Reference Mode Selection", 18 VREF (io) "Voltage Reference Input/Output", 19 REFB "Differential Reference (Bottom)", 20 REFT "Differential Reference (Top)", 23 VIN+C (in) "ADC C Analog Input--True", 24 VIN-C (in) "ADC C Analog Input--Complement", 26 VIN-D (in) "ADC D Analog Input--Complement", 27 VIN+D (in) "ADC D Analog Input--True", 30 CLK (in) "Input Clock", 34 LVDSBIAS (in) "LVDS Output Current Set Resistor Pin", 37 D-D (hiz) "ADC D Complement Digital Output", 38 D+D (hiz) "ADC D True Digital Output", 39 D-C (hiz) "ADC C Complement Digital Output", 40 D+C (hiz) "ADC C True Digital Output", 41 D-B (hiz) "ADC B Complement Digital Output", 42 D+B (hiz) "ADC B True Digital Output", 43 D-A (hiz) "ADC A Complement Digital Output", 44 D+A (hiz) "ADC A True Digital Output", 45 FCO- (out) "Frame Clock Indicator--Complement Output", 46 FCO+ (out) "Frame Clock Indicator--True Output", 47 DCO- (out) "Data Clock Output--Complement", 48 DCO+ (out) "Data Clock Output--True"
part B pins: 1 DRGND (power) "Digital Ground", 2 DRVDD (power) "Digital Output Supply", 5 AVDD (power) "Analog Supply", 6 AGND (power) "Analog Ground", 8 AVDD (power) "Analog Supply", 9 AGND (power) "Analog Ground", 12 AGND (power) "Analog Ground", 15 AGND (power) "Analog Ground", 16 AVDD (power) "Analog Supply", 21 AVDD (power) "Analog Supply", 22 AGND (power) "Analog Ground", 25 AGND (power) "Analog Ground", 28 AGND (power) "Analog Ground", 29 AVDD (power) "Analog Supply", 31 AGND (power) "Analog Ground", 32 AVDD (power) "Analog Supply", 33 AGND (power) "Analog Ground", 35 DRVDD (power) "Digital Output Supply", 36 DRGND (power) "Digital Ground", 49 EP (power) "Exposed Paddle/Thermal Heat Slug (Located on Bottom of  Package)"